# Altium footprint library 0x2a002a.PcbLib: 24 footprints (part 1 of 2)
Each footprint in its own frame and in the unit in brackets; x right, y up, seen from the top. Pads: shape width x height; smd on the part's side, far side on the other; paste and mask are expansions set on the pad; w line width, h text height; cw(c..) or ccw(c..) is an arc to the next point about the centre after c.
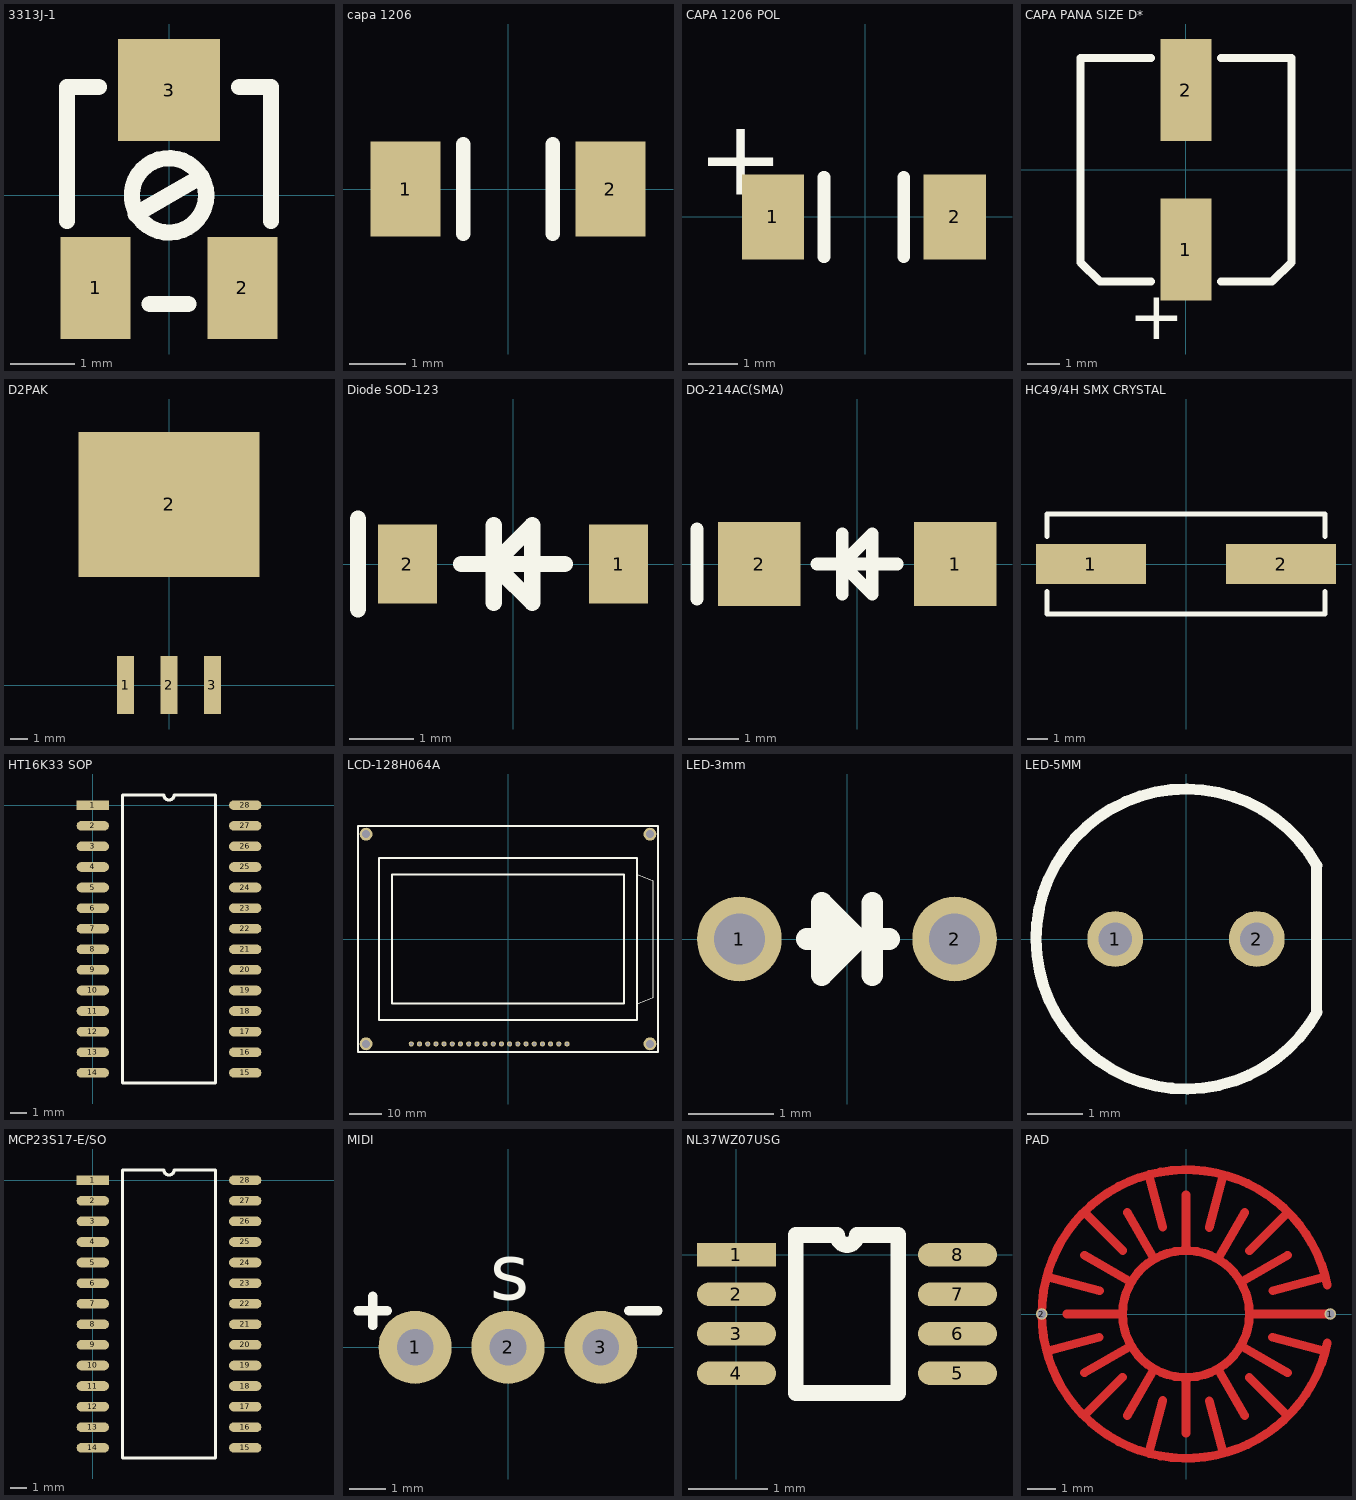
[diagram p0: the footprints below, top view; thin cyan lines are the x and y axes]

## 3313J-1 [mm]
pads (3):
  rect 1.1x1.6 smd: 1(-1.15,-1.45) 2(1.15,-1.45)
  rect 1.6x1.6 smd: 3(0,1.65)
Top Overlay:
  circle w0.254: c0,0 r0.583
  lines w0.254: -1.6,-0.4 -1.6,1.7 -1.1,1.7 ; -0.521,-0.296 0.504,0.296 ; -0.3,-1.7 0.3,-1.7 ; 1.1,1.7 1.6,1.7 1.6,-0.4

## capa 1206 [mm]
pads (2):
  rect 1.25x1.7 smd: 1(-1.825,0) 2(1.825,0)
Top Overlay:
  lines w0.254: -0.8,-0.8 -0.8,0.8 ; 0.8,-0.8 0.8,0.8

## CAPA 1206 POL [mm]
pads (2):
  rect 1.25x1.7 smd: 1(-1.85,0) 2(1.8,0)
Top Overlay:
  lines w0.254: -0.825,-0.8 -0.825,0.8 ; 0.775,-0.8 0.775,0.8
  text "+" at -3.375,0.45 h1.52

## CAPA PANA SIZE D* [mm]
pads (2):
  rect 1.6x3.2 smd: 1(0,-2.5) 2(0,2.5)
Top Overlay:
  lines w0.254: -1.1,-3.5 -2.7,-3.5 -3.3,-2.9 -3.3,3.5 -1.1,3.5 ; 1.1,-3.5 2.7,-3.5 3.3,-2.9 3.3,3.5 1.1,3.5
  text "+" at -1.8,-5.3 h1.52

## D2PAK [mm]
pads (4):
  rect 1x3.4 smd: 1(-2.54,0) 2(0,0) 3(2.54,0)
  rect 10.6x8.5 smd: 2(0,10.6)

## Diode SOD-123 [mm]
pads (2):
  rect 0.91x1.22 smd: 1(1.635,0) 2(-1.635,0)
Top Overlay:
  lines w0.254: -2.4,-0.7 -2.4,0.7 ; -0.8,0 0.8,0 ; -0.3,-0.6 -0.3,0.6 ; -0.3,0 0.3,0.6 0.3,-0.6 -0.2,-0.1

## DO-214AC(SMA) [mm]
pads (2):
  rect 1.65x1.67 smd: 1(1.96,0) 2(-1.96,0)
Top Overlay:
  lines w0.254: -3.2,-0.7 -3.2,0.7 ; -0.8,0 0.8,0 ; -0.3,-0.6 -0.3,0.6 ; -0.3,0 0.3,0.6 0.3,-0.6 -0.2,-0.1

## HC49/4H SMX CRYSTAL [mm]
pads (2):
  rect 5.5x2 smd: 1(-4.75,0) 2(4.75,0)
Top Overlay:
  lines w0.254: -6.95,-1.375 -6.95,-2.5 6.95,-2.5 6.95,-1.375 ; -6.95,1.375 -6.95,2.5 6.95,2.5 6.95,1.375

## HT16K33 SOP [mm]
height 2.64
pads (28):
  rect 2x0.6 smd: 1(0,0)
  oval 2x0.6 smd: 2(0,-1.27) 3(0,-2.54) 4(0,-3.81) 5(0,-5.08) 6(0,-6.35) 7(0,-7.62) 8(0,-8.89) 9(0,-10.16) 10(0,-11.43) 11(0,-12.7) 12(0,-13.97) 13(0,-15.24) 14(0,-16.51) 15(9.4,-16.51) 16(9.4,-15.24) 17(9.4,-13.97) 18(9.4,-12.7) 19(9.4,-11.43) 20(9.4,-10.16) 21(9.4,-8.89) 22(9.4,-7.62) 23(9.4,-6.35) 24(9.4,-5.08) 25(9.4,-3.81) 26(9.4,-2.54) 27(9.4,-1.27) 28(9.4,0)
Top Overlay:
  lines w0.2: 1.835,-17.145 1.835,0.635 4.382,0.635 ccw(c4.7,0.635) 5.017,0.635 7.565,0.635 7.565,-17.145 1.835,-17.145

## LCD-128H064A [mm]
height 10.6
pads (24):
  round 1.6 hole 1: 1(18.288,-32.512) 2(15.748,-32.512) 3(13.208,-32.512) 4(10.668,-32.512) 5(8.128,-32.512) 6(5.588,-32.512) 7(3.048,-32.512) 8(0.508,-32.512) 9(-2.032,-32.512) 10(-4.572,-32.512) 11(-7.112,-32.512) 12(-9.652,-32.512) 13(-12.192,-32.512) 14(-14.732,-32.512) 15(-17.272,-32.512) 16(-19.812,-32.512) 17(-22.352,-32.512) 18(-24.892,-32.512) 19(-27.432,-32.512) 20(-29.972,-32.512)
  round 4 hole 2.5: ""(-44,-32.5) ""(-44,32.5) ""(44,-32.5) ""(44,32.5)
Top Overlay:
  lines w0.254: 40,-20 45,-18 45,18 40,20 ; 40,19.225 40,19.7
  lines w0.6: -46.5,-35 46.5,-35 46.5,35 -46.5,35 -46.5,-35 ; -40,-25.1 40,-25.1 40,25.1 -27.9,25.1 -40,25.1 -40,-25.1 ; -36,-20 -36,20 36,20 36,-20 -36,-20

## LED-3mm [mm]
pads (2):
  round 1 hole 0.6: 1(-1.27,0) 2(1.27,0)
Top Overlay:
  lines w0.254: -0.475,0 0.5,0 ; 0.3,-0.425 0.3,0.425 ; -0.3,-0.425 0.125,0 -0.3,0.425 -0.3,-0.425

## LED-5MM [mm]
pads (2):
  round 1 hole 0.6: 1(-1.27,0) 2(1.27,0)
Top Overlay:
  lines w0.2: 2.338,-1.308 2.338,1.312 ; 2.343,1.319 ccw(c0,0) 2.349,-1.308

## MCP23S17-E/SO [mm]
pads (28):
  rect 2x0.6 smd: 1(0,0)
  oval 2x0.6 smd: 2(0,-1.27) 3(0,-2.54) 4(0,-3.81) 5(0,-5.08) 6(0,-6.35) 7(0,-7.62) 8(0,-8.89) 9(0,-10.16) 10(0,-11.43) 11(0,-12.7) 12(0,-13.97) 13(0,-15.24) 14(0,-16.51) 15(9.4,-16.51) 16(9.4,-15.24) 17(9.4,-13.97) 18(9.4,-12.7) 19(9.4,-11.43) 20(9.4,-10.16) 21(9.4,-8.89) 22(9.4,-7.62) 23(9.4,-6.35) 24(9.4,-5.08) 25(9.4,-3.81) 26(9.4,-2.54) 27(9.4,-1.27) 28(9.4,0)
Top Overlay:
  lines w0.2: 1.835,-17.145 1.835,0.635 4.382,0.635 ccw(c4.7,0.635) 5.017,0.635 7.565,0.635 7.565,-17.145 1.835,-17.145

## MIDI [mm]
pads (3):
  round 2 hole 1: 1(-2.54,0) 2(0,0) 3(2.54,0)
Top Overlay:
  lines w0.254: -4.1,1 -3.3,1 ; -3.7,0.6 -3.7,1.4 ; 3.3,1 4.1,1
  text "s" at -0.5,1.3 h1.52

## NL37WZ07USG [mm]
pads (8):
  rect 1x0.3 smd: 1(0,0)
  oval 1x0.3 smd: 2(0,-0.5) 3(0,-1) 4(0,-1.5) 5(2.8,-1.5) 6(2.8,-1) 7(2.8,-0.5) 8(2.8,0)
Top Overlay:
  lines w0.2: 0.75,-1.75 2.05,-1.75 2.05,0.25 1.525,0.25 cw(c1.4,0.25) 1.275,0.25 0.75,0.25 0.75,-1.75

## PAD [mm]
pads (2):
  round 0.4 hole 0.3: 1(5,0) 2(-5,0)
Top Layer:
  circle w0.3: c0,0 r2.2
  lines w0.3: -4.825,-1.289 -3.006,-0.801 ; -4.823,1.296 -3,0.808 ; -4.125,0 -2.2,0 ; -3.534,-3.529 -2.203,-2.197 ; -3.529,3.534 -2.197,2.203 ; -3.521,-2.033 -1.905,-1.1 ; -3.518,2.031 -1.905,1.1 ; -2.033,3.521 -1.1,1.905 ; -2.031,-3.518 -1.1,-1.905 ; -1.296,-4.823 -0.808,-3 ; -1.289,4.825 -0.801,3.006 ; 0,-4.125 0,-2.2 ; 0,2.2 0,4.125 ; 0.801,-3.006 1.289,-4.825 ; 0.808,3 1.296,4.823 ; 1.1,-1.905 2.033,-3.521 ; 1.1,1.905 2.031,3.518 ; 1.905,-1.1 3.518,-2.031 ; 1.905,1.1 3.521,2.033 ; 2.197,-2.203 3.529,-3.534 ; 2.2,0 5,0 ; 2.203,2.197 3.534,3.529 ; 3,-0.808 4.823,-1.296 ; 3.006,0.801 4.825,1.289 ; 4.899,-1 cw(c0,0) 4.899,1
Top Solder:
  circle w3: c0,0 r3.6